# EAGLE library part SMALL_MAVRIC_SERVOCONNECTOR_4 (library small_mavric)
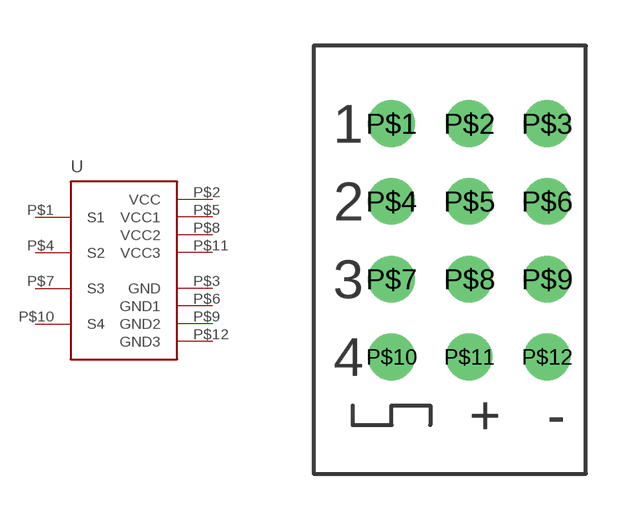
[diagram p4: symbol with the pads of SMALL_MAVRIC_HEADER3X4; footprint SMALL_MAVRIC_HEADER3X4]

Designator prefix -

## SMALL_MAVRIC_SERVOCONNECTOR_4 (PLACE_PART: YES)  [SMALL_MAVRIC_HEADER3X4]
P$1  S1
P$2  VCC  pwr
P$3  GND  pwr
P$4  S2
P$5  VCC1  pwr
P$6  GND1  pwr
P$7  S3
P$8  VCC2  pwr
P$9  GND2  pwr
P$10  S4
P$11  VCC3  pwr
P$12  GND3  pwr

## Footprint SMALL_MAVRIC_HEADER3X4 (pad centres in mm)
drill 1.016: P$1 -2.54,3.81; P$2 0,3.81; P$3 2.54,3.81; P$4 -2.54,1.27; P$5 0,1.27; P$6 2.54,1.27; P$7 -2.54,-1.27; P$8 0,-1.27; P$9 2.54,-1.27; P$10 -2.54,-3.81; P$11 0,-3.81; P$12 2.54,-3.81